# EAGLE library part RFID-RC522 (library mfrc522-module)
RFID-RC522 MFRC-522 based breakout board
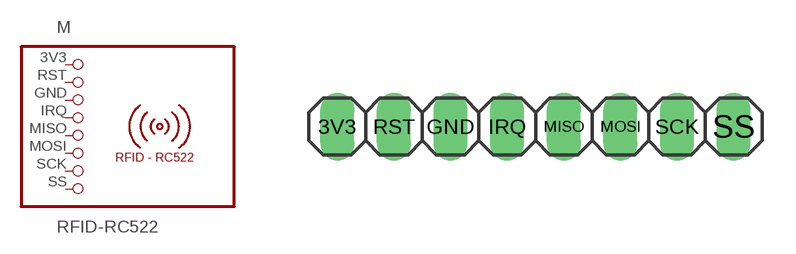
[diagram p0: symbol with the pads of RFID-RC522; footprint RFID-RC522]

Designator prefix M

## RFID-RC522  [RFID-RC522]
3V3  1  pas
GND  3  pas
IRQ  4  pas
MISO  5  pas
MOSI  6  pas
RST  2  pas
SCK  7  pas
SS  8  pas

## Footprint RFID-RC522 (pad centres in mm)
PIN HEADER
drill 1.016 long: 3V3 10.668,-3.048; GND 15.748,-3.048; IRQ 18.288,-3.048; MISO 20.828,-3.048; MOSI 23.368,-3.048; RST 13.208,-3.048; SCK 25.908,-3.048; SS 28.448,-3.048